# Altium footprint library TEH-D.PcbLib: 1 footprints
Each footprint in its own frame and in the unit in brackets; x right, y up, seen from the top. Pads: shape width x height; smd on the part's side, far side on the other; paste and mask are expansions set on the pad; w line width, h text height; cw(c..) or ccw(c..) is an arc to the next point about the centre after c.
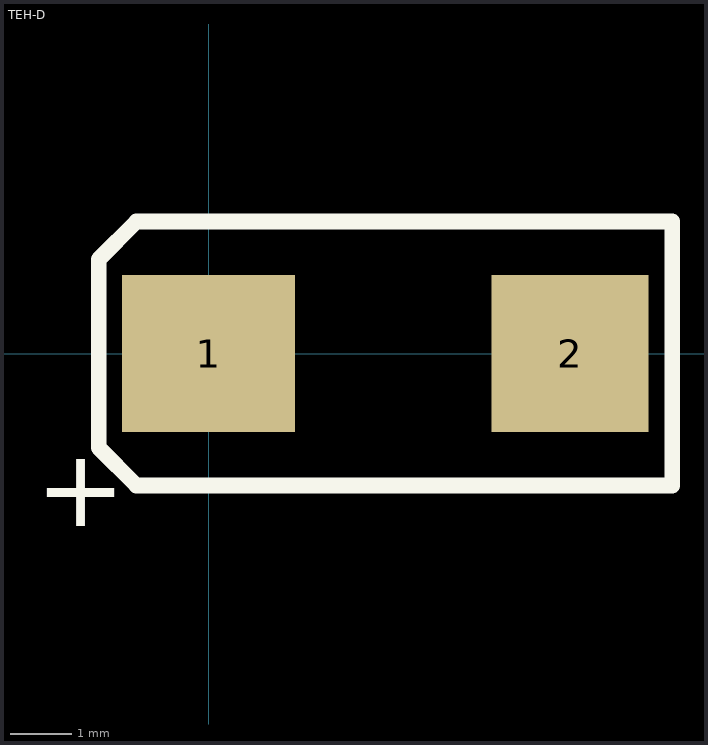
[diagram p0: the footprint, top view; thin cyan lines are the x and y axes]

## TEH-D [mil]
height 130
pads (2):
  rect 110x100 smd: 1(0,0)
  rect 100x100 smd: 2(230,0)
TopOverlay:
  lines w10: -31,84 -46,84 ; -27,-84 -46,-84 ; -46,-84 295,-84 295,84 -46,84 ; -46,-84 -70,-60 -70,0 -70,60 -46,84
  text "+" at -110,-110 h50
Mechanical4:
  text ".118" at 0,0 h1